# Altium integrated library docu-dummy.IntLib: 10 symbols
Pins are listed as number, name and electrical type; pins without a type are passive.

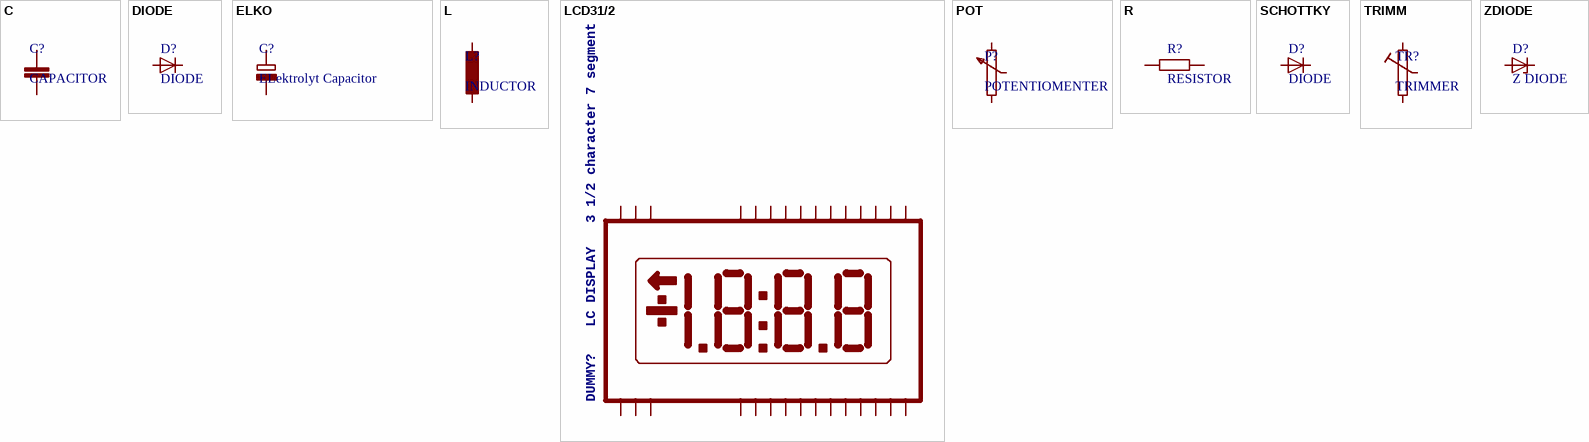
[diagram p0: symbols C to ZDIODE]

## C
designator C?, comment CAPACITOR

## DIODE
designator D?

## ELKO
designator C?, comment ELektrolyt Capacitor

## L
designator L?, comment INDUCTOR

## LCD31/2
designator DUMMY?, comment LC DISPLAY   3 1/2 character 7 segment

## POT
designator P?, comment POTENTIOMENTER

## R
designator R?, comment RESISTOR

## SCHOTTKY
designator D?, comment DIODE

## TRIMM
designator TR?, comment TRIMMER

## ZDIODE
designator D?, comment Z DIODE